# EAGLE library part TSYS01 (library graftel-internal-ic)
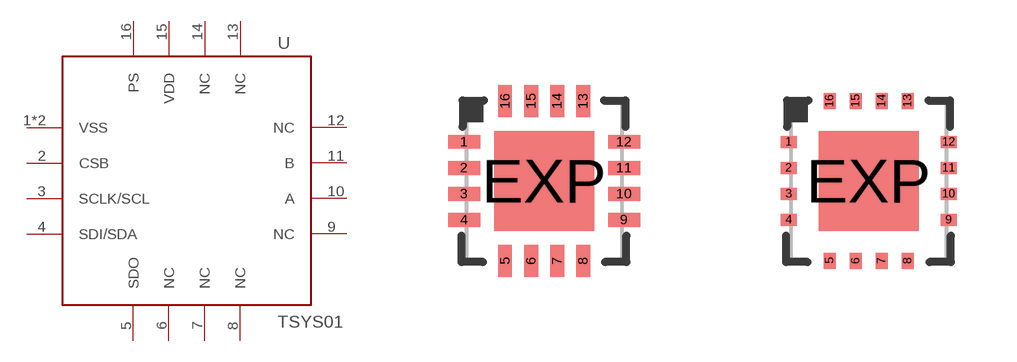
[diagram p1: symbol with the pads of QFN16-4X4; footprints QFN16-4X4, QFN16-4X4-SMALL]

Designator prefix U

## TSYS01N  [QFN16-4X4]
1  VSS
2  CSB
3  SCLK/SCL
4  SDI/SDA
5  SDO
6  NC
7  NC
8  NC
9  NC
10  A
11  B
12  NC
13  NC
14  NC
15  VDD
16  PS
EXP  VSS

## TSYS01S  [QFN16-4X4-SMALL]
Pads as for QFN16-4X4

## Footprint QFN16-4X4 (pad centres in mm)
16-Lead Plastic Quad Flat, No Lead Package (ML) - 4x4x0.9mm Body [QFN] Source: http://ww1.microchip.com/downloads/en/DeviceDoc/41203E.pdf
smd 0.8 x 0.35: 1 -2,0.975; 2 -2,0.325; 3 -2,-0.325; 4 -2,-0.975; 9 2,-0.975; 10 2,-0.325; 11 2,0.325; 12 2,0.975
smd 0.35 x 0.8: 5 -0.975,-2; 6 -0.325,-2; 7 0.325,-2; 8 0.975,-2; 13 0.975,2; 14 0.325,2; 15 -0.325,2; 16 -0.975,2
smd 2.5 x 2.5: EXP 0,0

## Footprint QFN16-4X4-SMALL (pad centres in mm)
16-Lead Plastic Quad Flat, No Lead Package (ML) - 4x4x0.9mm Body [QFN] Source: http://ww1.microchip.com/downloads/en/DeviceDoc/41203E.pdf
smd 0.4 x 0.3: 1 -2,0.975; 2 -2,0.325; 3 -2,-0.325; 4 -2,-0.975; 9 2,-0.975; 10 2,-0.325; 11 2,0.325; 12 2,0.975
smd 0.3 x 0.4: 5 -0.975,-2; 6 -0.325,-2; 7 0.325,-2; 8 0.975,-2; 13 0.975,2; 14 0.325,2; 15 -0.325,2; 16 -0.975,2
smd 2.5 x 2.5: EXP 0,0